# EAGLE library part MINIMODUL (library fcounter)
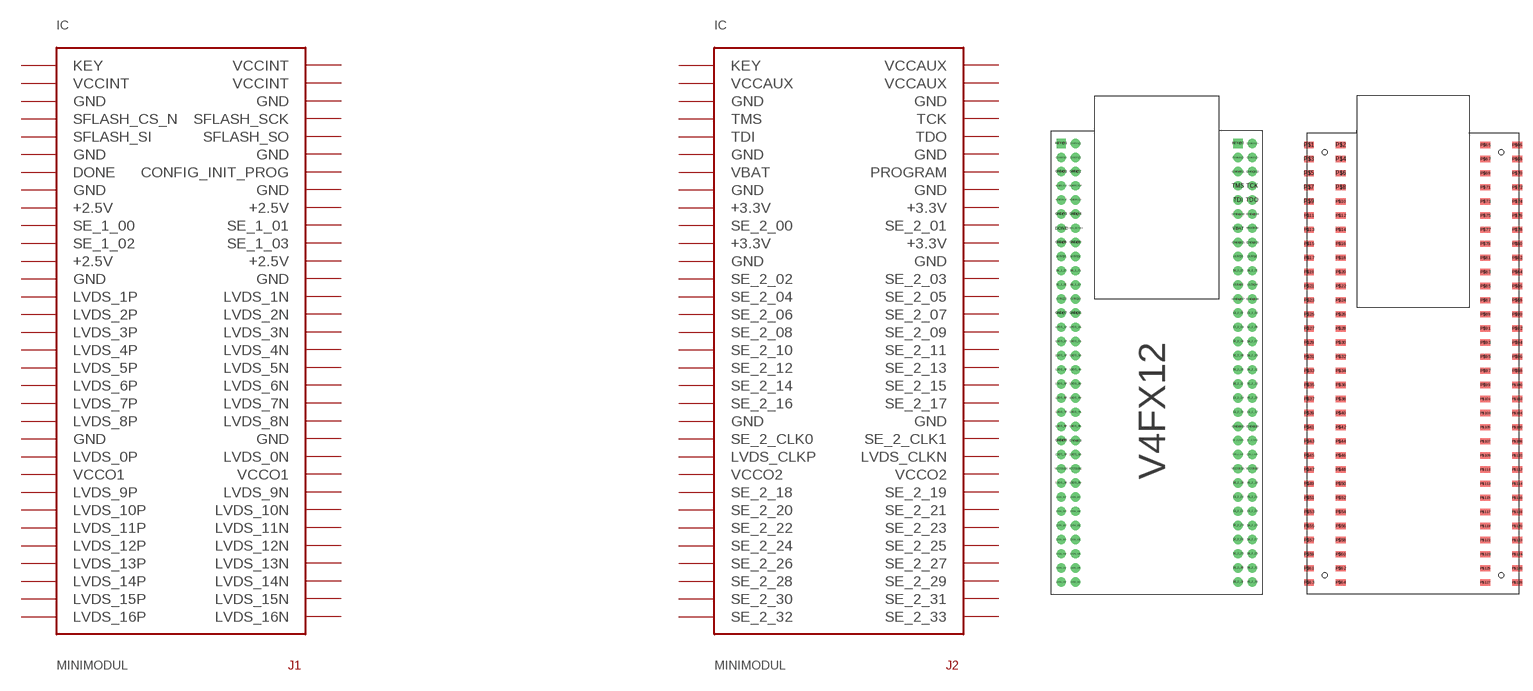
[diagram p11: symbol with the pads of MINIMODUL; footprints MINIMODUL, MINIMODULSMD]

Designator prefix IC

## MINIMODUL, MINIMODULSMD  [MINIMODUL]
+2.5V@1  +2.5V  pwr
+2.5V@2  +2.5V  pwr
+2.5V@3  +2.5V  pwr
+2.5V@4  +2.5V  pwr
+3.3V@1  +3.3V  pwr
+3.3V@2  +3.3V  pwr
+3.3V@3  +3.3V  pwr
+3.3V@4  +3.3V  pwr
CONFIG_INIT_PROG  CONFIG_INIT_PROG
DONE  DONE  out
GND@1  GND  pwr
GND@2  GND  pwr
GND@3  GND  pwr
GND@4  GND  pwr
GND@5  GND  pwr
GND@6  GND  pwr
GND@7  GND  pwr
GND@8  GND  pwr
GND@9  GND  pwr
GND@10  GND  pwr
GND@11  GND  pwr
GND@12  GND  pwr
GND@13  GND  pwr
GND@14  GND  pwr
GND@15  GND  pwr
GND@16  GND  pwr
GND@17  GND  pwr
GND@18  GND  pwr
GND@19  GND  pwr
GND@20  GND  pwr
KEY@1  KEY  nc
KEY@2  KEY  nc
LVDS_0N  LVDS_0N
LVDS_0P  LVDS_0P
LVDS_1N  LVDS_1N
LVDS_1P  LVDS_1P
LVDS_2_CLKN  LVDS_CLKN
LVDS_2_CLKP  LVDS_CLKP
LVDS_2N  LVDS_2N
LVDS_2P  LVDS_2P
LVDS_3N  LVDS_3N
LVDS_3P  LVDS_3P
LVDS_4N  LVDS_4N
LVDS_4P  LVDS_4P
LVDS_5N  LVDS_5N
LVDS_5P  LVDS_5P
LVDS_6N  LVDS_6N
LVDS_6P  LVDS_6P
LVDS_7N  LVDS_7N
LVDS_7P  LVDS_7P
LVDS_8N  LVDS_8N
LVDS_8P  LVDS_8P
LVDS_9N  LVDS_9N
LVDS_9P  LVDS_9P
LVDS_10N  LVDS_10N
LVDS_10P  LVDS_10P
LVDS_11N  LVDS_11N
LVDS_11P  LVDS_11P
LVDS_12N  LVDS_12N
LVDS_12P  LVDS_12P
LVDS_13N  LVDS_13N
LVDS_13P  LVDS_13P
LVDS_14N  LVDS_14N
LVDS_14P  LVDS_14P
LVDS_15N  LVDS_15N
LVDS_15P  LVDS_15P
LVDS_16N  LVDS_16N
LVDS_16P  LVDS_16P
PROGRAM  PROGRAM  in
SE_1_00  SE_1_00
SE_1_01  SE_1_01
SE_1_02  SE_1_02
SE_1_03  SE_1_03
SE_2_00  SE_2_00
SE_2_01  SE_2_01
SE_2_02  SE_2_02
SE_2_03  SE_2_03
SE_2_04  SE_2_04
SE_2_05  SE_2_05
SE_2_06  SE_2_06
SE_2_07  SE_2_07
SE_2_08  SE_2_08
SE_2_09  SE_2_09
SE_2_10  SE_2_10
SE_2_11  SE_2_11
SE_2_12  SE_2_12
SE_2_13  SE_2_13
SE_2_14  SE_2_14
SE_2_15  SE_2_15
SE_2_16  SE_2_16
SE_2_17  SE_2_17
SE_2_18  SE_2_18
SE_2_19  SE_2_19
SE_2_20  SE_2_20
SE_2_21  SE_2_21
SE_2_22  SE_2_22
SE_2_23  SE_2_23
SE_2_24  SE_2_24
SE_2_25  SE_2_25
SE_2_26  SE_2_26
SE_2_27  SE_2_27
SE_2_28  SE_2_28
SE_2_29  SE_2_29
SE_2_30  SE_2_30
SE_2_31  SE_2_31
SE_2_32  SE_2_32
SE_2_33  SE_2_33
SE_2_CLK0  SE_2_CLK0
SE_2_CLK1  SE_2_CLK1
SFLASH_CS_N  SFLASH_CS_N  in
SFLASH_SCK  SFLASH_SCK  in
SFLASH_SI  SFLASH_SI  in
SFLASH_SO  SFLASH_SO  out
TCK  TCK  in
TDI  TDI  in
TDO  TDO  out
TMS  TMS  in
VBAT  VBAT  in
VCCAUX@1  VCCAUX  pwr
VCCAUX@2  VCCAUX  pwr
VCCAUX@3  VCCAUX  pwr
VCCINT@1  VCCINT  pwr
VCCINT@2  VCCINT  pwr
VCCINT@3  VCCINT  pwr
VCCO1@1  VCCO1  pwr
VCCO1@2  VCCO1  pwr
VCCO2@1  VCCO2  pwr
VCCO2@2  VCCO2  pwr

## MINIMODULSMD  [MINIMODULSMD]
P$1  KEY  nc
P$2  VCCINT  pwr
P$3  VCCINT  pwr
P$4  VCCINT  pwr
P$5  GND  pwr
P$6  GND  pwr
P$7  SFLASH_CS_N  in
P$8  SFLASH_SCK  in
P$9  SFLASH_SI  in
P$10  SFLASH_SO  out
P$11  GND  pwr
P$12  GND  pwr
P$13  DONE  out
P$14  CONFIG_INIT_PROG
P$15  GND  pwr
P$16  GND  pwr
P$17  +2.5V  pwr
P$18  +2.5V  pwr
P$19  SE_1_00
P$20  SE_1_01
P$21  SE_1_02
P$22  SE_1_03
P$23  +2.5V  pwr
P$24  +2.5V  pwr
P$25  GND  pwr
P$26  GND  pwr
P$27  LVDS_1P
P$28  LVDS_1N
P$29  LVDS_2P
P$30  LVDS_2N
P$31  LVDS_3P
P$32  LVDS_3N
P$33  LVDS_4P
P$34  LVDS_4N
P$35  LVDS_5P
P$36  LVDS_5N
P$37  LVDS_6P
P$38  LVDS_6N
P$39  LVDS_7P
P$40  LVDS_7N
P$41  LVDS_8P
P$42  LVDS_8N
P$43  GND  pwr
P$44  GND  pwr
P$45  LVDS_0P
P$46  LVDS_0N
P$47  VCCO1  pwr
P$48  VCCO1  pwr
P$49  LVDS_9P
P$50  LVDS_9N
P$51  LVDS_10P
P$52  LVDS_10N
P$53  LVDS_11P
P$54  LVDS_11N
P$55  LVDS_12P
P$56  LVDS_12N
P$57  LVDS_13P
P$58  LVDS_13N
P$59  LVDS_14P
P$60  LVDS_14N
P$61  LVDS_15P
P$62  LVDS_15N
P$63  LVDS_16P
P$64  LVDS_16N
P$65  KEY  nc
P$66  VCCAUX  pwr
P$67  VCCAUX  pwr
P$68  VCCAUX  pwr
P$69  GND  pwr
P$70  GND  pwr
P$71  TMS  in
P$72  TCK  in
P$73  TDI  in
P$74  TDO  out
P$75  GND  pwr
P$76  GND  pwr
P$77  VBAT  in
P$78  PROGRAM  in
P$79  GND  pwr
P$80  GND  pwr
P$81  +3.3V  pwr
P$82  +3.3V  pwr
P$83  SE_2_00
P$84  SE_2_01
P$85  +3.3V  pwr
P$86  +3.3V  pwr
P$87  GND  pwr
P$88  GND  pwr
P$89  SE_2_02
P$90  SE_2_03
P$91  SE_2_04
P$92  SE_2_05
P$93  SE_2_06
P$94  SE_2_07
P$95  SE_2_08
P$96  SE_2_09
P$97  SE_2_10
P$98  SE_2_11
P$99  SE_2_12
P$100  SE_2_13
P$101  SE_2_14
P$102  SE_2_15
P$103  SE_2_16
P$104  SE_2_17
P$105  GND  pwr
P$106  GND  pwr
P$107  SE_2_CLK0
P$108  SE_2_CLK1
P$109  LVDS_CLKP
P$110  LVDS_CLKN
P$111  VCCO2  pwr
P$112  VCCO2  pwr
P$113  SE_2_18
P$114  SE_2_19
P$115  SE_2_20
P$116  SE_2_21
P$117  SE_2_22
P$118  SE_2_23
P$119  SE_2_24
P$120  SE_2_25
P$121  SE_2_26
P$122  SE_2_27
P$123  SE_2_28
P$124  SE_2_29
P$125  SE_2_30
P$126  SE_2_31
P$127  SE_2_32
P$128  SE_2_33

## Footprint MINIMODUL (pad centres in mm)
drill 0.813 round: +2.5V@1 -13.5,15.25; +2.5V@2 -11.5,15.25; +2.5V@3 -13.5,9.25; +2.5V@4 -11.5,9.25; +3.3V@1 11.5,15.25; +3.3V@2 13.5,15.25; +3.3V@3 11.5,11.25; +3.3V@4 13.5,11.25; CONFIG_INIT_PROG -11.5,19.25; DONE -13.5,19.25; GND@1 -13.5,27.25; GND@2 -11.5,27.25; GND@3 -13.5,21.25; GND@4 -11.5,21.25; GND@5 -13.5,17.25; GND@6 -11.5,17.25; GND@7 -13.5,7.25; GND@8 -11.5,7.25; GND@9 -13.5,-10.75; GND@10 -11.5,-10.75; GND@11 11.5,27.25; GND@12 13.5,27.25; GND@13 11.5,21.25; GND@14 13.5,21.25; GND@15 11.5,17.25; GND@16 13.5,17.25; GND@17 11.5,9.25; GND@18 13.5,9.25; GND@19 11.5,-8.75; GND@20 13.5,-8.75; LVDS_0N -11.5,-12.75; LVDS_0P -13.5,-12.75; LVDS_1N -11.5,5.25; LVDS_1P -13.5,5.25; LVDS_2_CLKN 13.5,-12.75; LVDS_2_CLKP 11.5,-12.75; LVDS_2N -11.5,3.25; LVDS_2P -13.5,3.25; LVDS_3N -11.5,1.25; LVDS_3P -13.5,1.25; LVDS_4N -11.5,-0.75; LVDS_4P -13.5,-0.75; LVDS_5N -11.5,-2.75; LVDS_5P -13.5,-2.75; LVDS_6N -11.5,-4.75; LVDS_6P -13.5,-4.75; LVDS_7N -11.5,-6.75; LVDS_7P -13.5,-6.75; LVDS_8N -11.5,-8.75; LVDS_8P -13.5,-8.75; LVDS_9N -11.5,-16.75; LVDS_9P -13.5,-16.75; LVDS_10N -11.5,-18.75; LVDS_10P -13.5,-18.75; LVDS_11N -11.5,-20.75; LVDS_11P -13.5,-20.75; LVDS_12N -11.5,-22.75; LVDS_12P -13.5,-22.75; LVDS_13N -11.5,-24.75; LVDS_13P -13.5,-24.75; LVDS_14N -11.5,-26.75; LVDS_14P -13.5,-26.75; LVDS_15N -11.5,-28.75; LVDS_15P -13.5,-28.75; LVDS_16N -11.5,-30.75; LVDS_16P -13.5,-30.75; PROGRAM 13.5,19.25; SE_1_00 -13.5,13.25; SE_1_01 -11.5,13.25; SE_1_02 -13.5,11.25; SE_1_03 -11.5,11.25; SE_2_00 11.5,13.25; SE_2_01 13.5,13.25; SE_2_02 11.5,7.25; SE_2_03 13.5,7.25; SE_2_04 11.5,5.25; SE_2_05 13.5,5.25; SE_2_06 11.5,3.25; SE_2_07 13.5,3.25; SE_2_08 11.5,1.25; SE_2_09 13.5,1.25; SE_2_10 11.5,-0.75; SE_2_11 13.5,-0.75; SE_2_12 11.5,-2.75; SE_2_13 13.5,-2.75; SE_2_14 11.5,-4.75; SE_2_15 13.5,-4.75; SE_2_16 11.5,-6.75; SE_2_17 13.5,-6.75; SE_2_18 11.5,-16.75; SE_2_19 13.5,-16.75; SE_2_20 11.5,-18.75; SE_2_21 13.5,-18.75; SE_2_22 11.5,-20.75; SE_2_23 13.5,-20.75; SE_2_24 11.5,-22.75; SE_2_25 13.5,-22.75; SE_2_26 11.5,-24.75; SE_2_27 13.5,-24.75; SE_2_28 11.5,-26.75; SE_2_29 13.5,-26.75; SE_2_30 11.5,-28.75; SE_2_31 13.5,-28.75; SE_2_32 11.5,-30.75; SE_2_33 13.5,-30.75; SE_2_CLK0 11.5,-10.75; SE_2_CLK1 13.5,-10.75; SFLASH_CS_N -13.5,25.25; SFLASH_SCK -11.5,25.25; SFLASH_SI -13.5,23.25; SFLASH_SO -11.5,23.25; TCK 13.5,25.25; TDI 11.5,23.25; TDO 13.5,23.25; TMS 11.5,25.25; VBAT 11.5,19.25; VCCAUX@1 13.5,31.25; VCCAUX@2 11.5,29.25; VCCAUX@3 13.5,29.25; VCCINT@1 -11.5,31.25; VCCINT@2 -13.5,29.25; VCCINT@3 -11.5,29.25; VCCO1@1 -13.5,-14.75; VCCO1@2 -11.5,-14.75; VCCO2@1 11.5,-14.75; VCCO2@2 13.5,-14.75
drill 0.813 square: KEY@1 -13.5,31.25; KEY@2 11.5,31.25

## Footprint MINIMODULSMD (pad centres in mm)
smd 1.4 x 0.889: P$1 -14.45,30.8; P$2 -9.95,30.8; P$3 -14.45,28.8; P$4 -9.95,28.8; P$5 -14.45,26.8; P$6 -9.95,26.8; P$7 -14.45,24.8; P$8 -9.95,24.8; P$9 -14.45,22.8; P$10 -9.95,22.8; P$11 -14.45,20.8; P$12 -9.95,20.8; P$13 -14.45,18.8; P$14 -9.95,18.8; P$15 -14.45,16.8; P$16 -9.95,16.8; P$17 -14.45,14.8; P$18 -9.95,14.8; P$19 -14.45,12.8; P$20 -9.95,12.8; P$21 -14.45,10.8; P$22 -9.95,10.8; P$23 -14.45,8.8; P$24 -9.95,8.8; P$25 -14.45,6.8; P$26 -9.95,6.8; P$27 -14.45,4.8; P$28 -9.95,4.8; P$29 -14.45,2.8; P$30 -9.95,2.8; P$31 -14.45,0.8; P$32 -9.95,0.8; P$33 -14.45,-1.2; P$34 -9.95,-1.2; P$35 -14.45,-3.2; P$36 -9.95,-3.2; P$37 -14.45,-5.2; P$38 -9.95,-5.2; P$39 -14.45,-7.2; P$40 -9.95,-7.2; P$41 -14.45,-9.2; P$42 -9.95,-9.2; P$43 -14.45,-11.2; P$44 -9.95,-11.2; P$45 -14.45,-13.2; P$46 -9.95,-13.2; P$47 -14.45,-15.2; P$48 -9.95,-15.2; P$49 -14.45,-17.2; P$50 -9.95,-17.2; P$51 -14.45,-19.2; P$52 -9.95,-19.2; P$53 -14.45,-21.2; P$54 -9.95,-21.2; P$55 -14.45,-23.2; P$56 -9.95,-23.2; P$57 -14.45,-25.2; P$58 -9.95,-25.2; P$59 -14.45,-27.2; P$60 -9.95,-27.2; P$61 -14.45,-29.2; P$62 -9.95,-29.2; P$63 -14.45,-31.2; P$64 -9.95,-31.2; P$65 10.55,30.8; P$66 15.05,30.8; P$67 10.55,28.8; P$68 15.05,28.8; P$69 10.55,26.8; P$70 15.05,26.8; P$71 10.55,24.8; P$72 15.05,24.8; P$73 10.55,22.8; P$74 15.05,22.8; P$75 10.55,20.8; P$76 15.05,20.8; P$77 10.55,18.8; P$78 15.05,18.8; P$79 10.55,16.8; P$80 15.05,16.8; P$81 10.55,14.8; P$82 15.05,14.8; P$83 10.55,12.8; P$84 15.05,12.8; P$85 10.55,10.8; P$86 15.05,10.8; P$87 10.55,8.8; P$88 15.05,8.8; P$89 10.55,6.8; P$90 15.05,6.8; P$91 10.55,4.8; P$92 15.05,4.8; P$93 10.55,2.8; P$94 15.05,2.8; P$95 10.55,0.8; P$96 15.05,0.8; P$97 10.55,-1.2; P$98 15.05,-1.2; P$99 10.55,-3.2; P$100 15.05,-3.2; P$101 10.55,-5.2; P$102 15.05,-5.2; P$103 10.55,-7.2; P$104 15.05,-7.2; P$105 10.55,-9.2; P$106 15.05,-9.2; P$107 10.55,-11.2; P$108 15.05,-11.2; P$109 10.55,-13.2; P$110 15.05,-13.2; P$111 10.55,-15.2; P$112 15.05,-15.2; P$113 10.55,-17.2; P$114 15.05,-17.2; P$115 10.55,-19.2; P$116 15.05,-19.2; P$117 10.55,-21.2; P$118 15.05,-21.2; P$119 10.55,-23.2; P$120 15.05,-23.2; P$121 10.55,-25.2; P$122 15.05,-25.2; P$123 10.55,-27.2; P$124 15.05,-27.2; P$125 10.55,-29.2; P$126 15.05,-29.2; P$127 10.55,-31.2; P$128 15.05,-31.2
hole 0.71 at -12.2,29.8
hole 0.71 at -12.2,-30.2
hole 0.71 at 12.8,-30.2
hole 0.71 at 12.8,29.8